# Altium schematic symbol library schlib.SchLib: 7 symbols
Pins are listed as number, name and electrical type; pins without a type are passive.

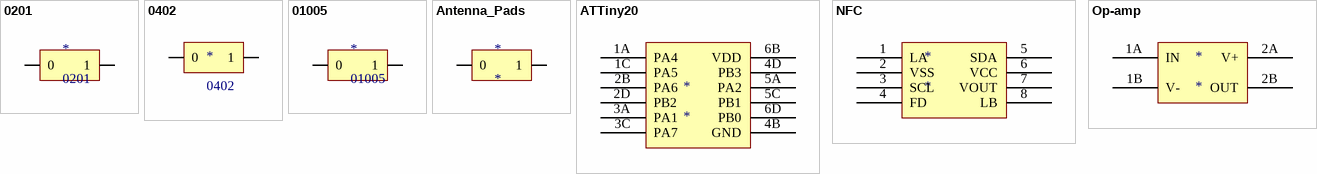
[diagram p0: symbols 0201 to Op-amp]

## 0201
designator *
0201 Component; MPN: *; Value: *
footprint 0201
pins: 0, 1

## 0402
designator *
0402 Component; MPN: *; Value: *
footprint 0402
pins: 0, 1

## 01005
designator *
01005 Component; MPN: *; Value: *
footprint 01005
pins: 0, 1

## Antenna_Pads
designator *
pins: 0, 1

## ATTiny20
designator *
footprint Large_attiny
pins: 1A PA4, 1C PA5, 2B PA6, 2D PB2, 3A PA1, 3C PA7, 4B GND, 4D PB3, 5A PA2, 5C PB1, 6B VDD, 6D PB0

## NFC
designator *
footprint NFC
pins: 1 LA, 2 VSS, 3 SCL, 4 FD, 5 SDA, 6 VCC, 7 VOUT, 8 LB

## Op-amp
designator *
footprint opamp
pins: 1A IN, 1B V-, 2A V+, 2B OUT